# EAGLE library part IC880A (library fruit-parts)
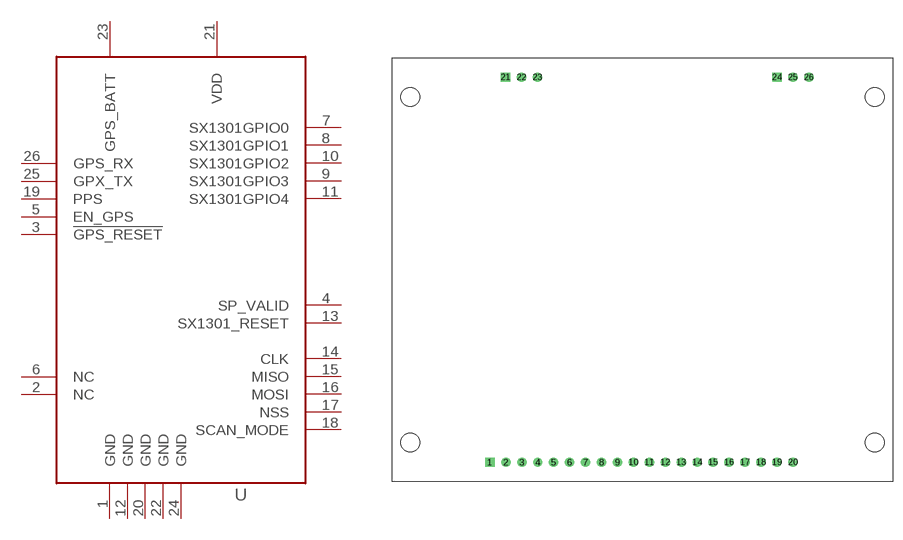
[diagram p3: symbol with the pads of IC880A; footprint IC880A]

Designator prefix U

## IC880A  [IC880A]
1  GND  pwr
2  NC  nc
3  !GPS_RESET  in
4  SP_VALID  in
5  EN_GPS  in
6  NC  nc
7  SX1301GPIO0
8  SX1301GPIO1
9  SX1301GPIO3
10  SX1301GPIO2
11  SX1301GPIO4
12  GND  pwr
13  SX1301_RESET  in
14  CLK  in
15  MISO  out
16  MOSI  in
17  NSS  in
18  SCAN_MODE  in
19  PPS
20  GND  pwr
21  VDD  pwr
22  GND  pwr
23  GPS_BATT  pwr
24  GND  pwr
25  GPX_TX  out
26  GPS_RX  in

## Footprint IC880A (pad centres in mm)
drill 1 square: 1 -24.3,-30.65; 21 -21.8,30.65; 24 21.4,30.65
drill 1: 2 -21.76,-30.65; 3 -19.22,-30.65; 4 -16.68,-30.65; 5 -14.14,-30.65; 6 -11.6,-30.65; 7 -9.06,-30.65; 8 -6.52,-30.65; 9 -3.98,-30.65; 10 -1.44,-30.65; 11 1.1,-30.65; 12 3.64,-30.65; 13 6.18,-30.65; 14 8.72,-30.65; 15 11.26,-30.65; 16 13.8,-30.65; 17 16.34,-30.65; 18 18.88,-30.65; 19 21.42,-30.65; 20 23.96,-30.65; 22 -19.26,30.65; 23 -16.72,30.65; 25 23.94,30.65; 26 26.48,30.65
hole 3 at -37,27.5
hole 3 at 37,27.5
hole 3 at -37,-27.5
hole 3 at 37,-27.5